# Altium footprint library Batteries.PcbLib: 12 footprints
Each footprint in its own frame and in the unit in brackets; x right, y up, seen from the top. Pads: shape width x height; smd on the part's side, far side on the other; paste and mask are expansions set on the pad; w line width, h text height; cw(c..) or ccw(c..) is an arc to the next point about the centre after c.
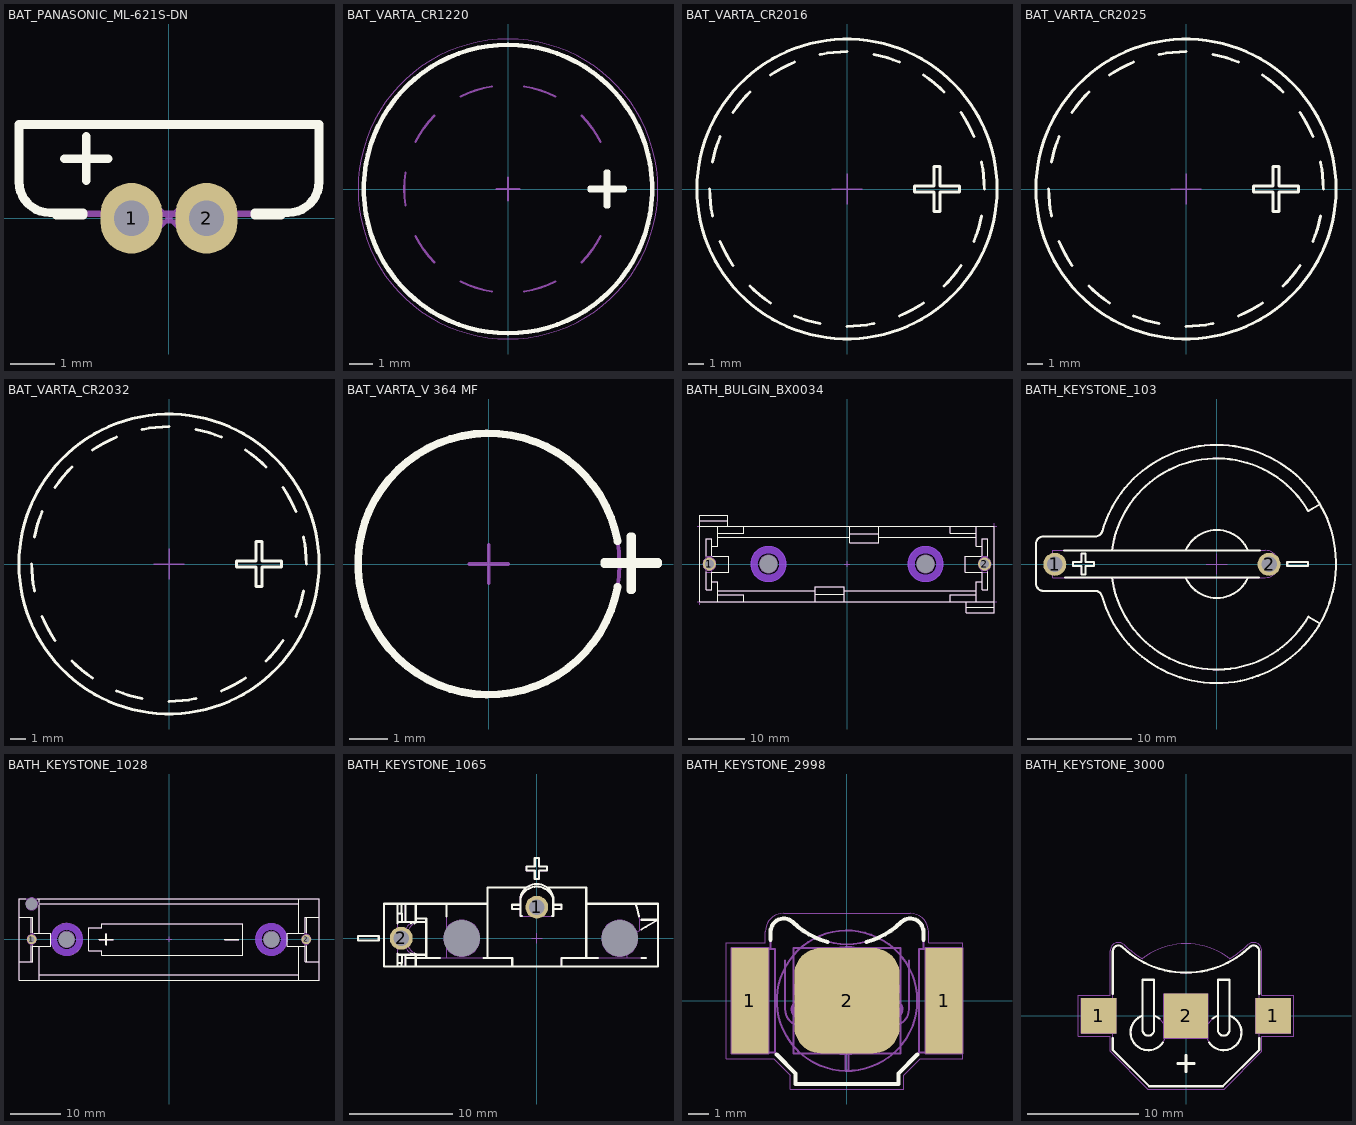
[diagram p0: the footprints below, top view; thin cyan lines are the x and y axes]

## BAT_PANASONIC_ML-621S-DN [mm] "6.8mm Diameter x 2.55mm Height Rechargeable 3V, 5mAh, Lithium Coin Cells, ML Series"
height 2.55
pads (2):
  oval 1.4x1.6 hole 0.8: 1(-0.85,0) 2(0.85,0)
Top Overlay:
  lines w0.2: -2.55,0.125 -2.55,0.075 -1.948,0.075 ; -2.375,1.35 -1.875,1.35 ; -1.943,0.125 -2.7,0.125 cw(c-2.7,0.825) -3.4,0.825 -3.4,2.125 3.4,2.125 3.4,0.825 cw(c2.7,0.825) 2.7,0.125 1.944,0.125 ; -1.875,0.85 -1.875,1.35 ; -1.875,1.85 -1.875,1.35 ; -1.375,1.35 -1.875,1.35 ; 1.948,0.075 2.543,0.075 2.543,0.125
Mechanical 8:
  lines w0.1: -1.35,0 -0.85,0 ; -0.85,-0.5 -0.85,0 ; -0.85,0.5 -0.85,0 ; -0.354,-0.354 0,0 ; -0.354,0.354 0,0 ; -0.35,0 -0.85,0 ; 0.35,0 0.85,0 ; 0.354,-0.354 0,0 ; 0.354,0.354 0,0 ; 0.85,-0.5 0.85,0 ; 0.85,0.5 0.85,0 ; 1.35,0 0.85,0
Mechanical 14:
  lines w0.1: -2.55,0.125 -2.55,0.075 2.543,0.075 2.543,0.125 ; -2.375,1.35 -1.875,1.35 ; -1.875,0.85 -1.875,1.35 ; -1.875,1.85 -1.875,1.35 ; -1.375,1.35 -1.875,1.35 ; -1.05,-0.075 -1.05,0.075 ; -1,-0.075 1,-0.075 ; 1.05,-0.075 1.05,0.075 ; -3.4,0.825 ccw(c-2.7,0.825) -2.7,0.125 2.7,0.125 ccw(c2.7,0.825) 3.4,0.825 3.4,2.125 -3.4,2.125 -3.4,0.825
3D body "BAT_PANASONIC_ML-621S-DN.stp": height 7.4, standoff -1.85, extent -3.4,-0.075 3.4,2.275

## BAT_VARTA_CR1220 [mm] "CR1210, 12.5mm Diameter x 2mm  Height Lithium Coin Cells"
height 2
Top Overlay:
  lines w0.2: 0,-6.25 cw(c0,0) 0,6.25 cw(c0,0) 0,-6.25 ; 3.547,-0.05 3.547,0.05 4.247,0.05 4.247,0.75 4.347,0.75 4.347,0.05 5.047,0.05 5.047,-0.05 4.347,-0.05 4.347,-0.75 4.247,-0.75 4.247,-0.05 3.547,-0.05
Mechanical 8:
  lines w0.1: -0.5,0 0,0 ; 0,-0.5 0,0 ; 0,0.5 0,0 ; 0.5,0 0,0
Mechanical 14:
  circle w0.1: c0,0 r6.25
  lines w0.1: -4.445,-0.704 cw(c0,0) -4.445,0.704 ; -4.01,-2.043 ccw(c0,0) -3.182,-3.182 ; -4.01,2.043 cw(c0,0) -3.182,3.182 ; -2.043,-4.01 ccw(c0,0) -0.704,-4.445 ; -2.043,4.01 cw(c0,0) -0.704,4.445 ; 0.704,-4.445 ccw(c0,0) 2.043,-4.01 ; 0.704,4.445 cw(c0,0) 2.043,4.01 ; 3.182,-3.182 ccw(c0,0) 4.01,-2.043 ; 3.182,3.182 cw(c0,0) 4.01,2.043
Mechanical 15:
  circle w0.05: c0,0 r6.5
3D body "BAT_VARTA_CR1220.stp": height 2, standoff 0, extent -6.25,-6.25 6.25,6.25

## BAT_VARTA_CR2016 [mm] "CR2016, 20mm Diameter x 1.6mm  Height Lithium Coin Cells"
height 1.6
Top Overlay:
  circle w0.2: c0,0 r10
  lines w0.2: -9.15,0 ccw(c0,0) -8.974,-1.785 ; -8.974,1.785 cw(c0,0) -8.454,3.502 ; -8.454,-3.502 ccw(c0,0) -7.608,-5.083 ; -7.608,5.083 cw(c0,0) -6.47,6.47 ; -6.47,-6.47 ccw(c0,0) -5.083,-7.608 ; -5.083,7.608 cw(c0,0) -3.502,8.454 ; -3.502,-8.454 ccw(c0,0) -1.785,-8.974 ; -1.785,8.974 cw(c0,0) 0,9.15 ; 0,-9.15 ccw(c0,0) 1.785,-8.974 ; 1.785,8.974 cw(c0,0) 3.502,8.454 ; 3.502,-8.454 ccw(c0,0) 5.083,-7.608 ; 5.083,7.608 cw(c0,0) 6.47,6.47 ; 6.47,-6.47 ccw(c0,0) 7.608,-5.083 ; 7.608,5.083 cw(c0,0) 8.454,3.502 ; 8.454,-3.502 ccw(c0,0) 8.974,-1.785 ; 8.974,1.785 cw(c0,0) 9.15,0 ; 4.5,-0.2 5.813,-0.2 5.813,-1.5 6.213,-1.5 6.213,-0.2 7.5,-0.2 7.5,0.2 6.213,0.2 6.213,1.5 5.813,1.5 5.813,0.2 4.5,0.2 4.5,-0.2
Mechanical 8:
  lines w0.1: -1,0 0,0 ; 0,-1 0,0 ; 0,1 0,0 ; 1,0 0,0
Mechanical 13:
  circle w0.1: c0,0 r10
Mechanical 14:
  lines w0.1: -9.15,0 ccw(c0,0) -8.974,-1.785 ; -8.974,1.785 cw(c0,0) -8.454,3.502 ; -8.454,-3.502 ccw(c0,0) -7.608,-5.083 ; -7.608,5.083 cw(c0,0) -6.47,6.47 ; -6.47,-6.47 ccw(c0,0) -5.083,-7.608 ; -5.083,7.608 cw(c0,0) -3.502,8.454 ; -3.502,-8.454 ccw(c0,0) -1.785,-8.974 ; -1.785,8.974 cw(c0,0) 0,9.15 ; 0,-9.15 ccw(c0,0) 1.785,-8.974 ; 1.785,8.974 cw(c0,0) 3.502,8.454 ; 3.502,-8.454 ccw(c0,0) 5.083,-7.608 ; 5.083,7.608 cw(c0,0) 6.47,6.47 ; 6.47,-6.47 ccw(c0,0) 7.608,-5.083 ; 7.608,5.083 cw(c0,0) 8.454,3.502 ; 8.454,-3.502 ccw(c0,0) 8.974,-1.785 ; 8.974,1.785 cw(c0,0) 9.15,0 ; 4.5,-0.2 5.813,-0.2 5.813,-1.5 6.213,-1.5 6.213,-0.2 7.5,-0.2 7.5,0.2 6.213,0.2 6.213,1.5 5.813,1.5 5.813,0.2 4.5,0.2 4.5,-0.2
3D body "BAT_VARTA_CR2016.stp": height 1.6, standoff -0.1, extent -10,-10 10,10

## BAT_VARTA_CR2025 [mm] "CR2025, 20mm Diameter x 2.5mm  Height Lithium Coin Cells"
height 2.5
Top Overlay:
  circle w0.2: c0,0 r10
  lines w0.2: -9.15,0 ccw(c0,0) -8.974,-1.785 ; -8.974,1.785 cw(c0,0) -8.454,3.502 ; -8.454,-3.502 ccw(c0,0) -7.608,-5.083 ; -7.608,5.083 cw(c0,0) -6.47,6.47 ; -6.47,-6.47 ccw(c0,0) -5.083,-7.608 ; -5.083,7.608 cw(c0,0) -3.502,8.454 ; -3.502,-8.454 ccw(c0,0) -1.785,-8.974 ; -1.785,8.974 cw(c0,0) 0,9.15 ; 0,-9.15 ccw(c0,0) 1.785,-8.974 ; 1.785,8.974 cw(c0,0) 3.502,8.454 ; 3.502,-8.454 ccw(c0,0) 5.083,-7.608 ; 5.083,7.608 cw(c0,0) 6.47,6.47 ; 6.47,-6.47 ccw(c0,0) 7.608,-5.083 ; 7.608,5.083 cw(c0,0) 8.454,3.502 ; 8.454,-3.502 ccw(c0,0) 8.974,-1.785 ; 8.974,1.785 cw(c0,0) 9.15,0 ; 4.5,-0.2 4.5,0.2 5.813,0.2 5.813,1.5 6.213,1.5 6.213,0.2 7.5,0.2 7.5,-0.2 6.213,-0.2 6.213,-1.5 5.813,-1.5 5.813,-0.2 4.5,-0.2
Mechanical 8:
  lines w0.1: -1,0 0,0 ; 0,-1 0,0 ; 0,1 0,0 ; 1,0 0,0
Mechanical 13:
  circle w0.1: c0,0 r10
Mechanical 14:
  lines w0.1: -9.15,0 ccw(c0,0) -8.974,-1.785 ; -8.974,1.785 cw(c0,0) -8.454,3.502 ; -8.454,-3.502 ccw(c0,0) -7.608,-5.083 ; -7.608,5.083 cw(c0,0) -6.47,6.47 ; -6.47,-6.47 ccw(c0,0) -5.083,-7.608 ; -5.083,7.608 cw(c0,0) -3.502,8.454 ; -3.502,-8.454 ccw(c0,0) -1.785,-8.974 ; -1.785,8.974 cw(c0,0) 0,9.15 ; 0,-9.15 ccw(c0,0) 1.785,-8.974 ; 1.785,8.974 cw(c0,0) 3.502,8.454 ; 3.502,-8.454 ccw(c0,0) 5.083,-7.608 ; 5.083,7.608 cw(c0,0) 6.47,6.47 ; 6.47,-6.47 ccw(c0,0) 7.608,-5.083 ; 7.608,5.083 cw(c0,0) 8.454,3.502 ; 8.454,-3.502 ccw(c0,0) 8.974,-1.785 ; 8.974,1.785 cw(c0,0) 9.15,0 ; 4.5,-0.2 4.5,0.2 5.813,0.2 5.813,1.5 6.213,1.5 6.213,0.2 7.5,0.2 7.5,-0.2 6.213,-0.2 6.213,-1.5 5.813,-1.5 5.813,-0.2 4.5,-0.2
3D body "BAT_VARTA_CR2025.stp": height 2.5, standoff 0, extent -10,-10 10,10

## BAT_VARTA_CR2032 [mm] "CR2032, 20mm Diameter x 32mm  Height Lithium Coin Cells"
height 3.2
Top Overlay:
  circle w0.2: c0,0 r10
  lines w0.2: -9.15,0 ccw(c0,0) -8.974,-1.785 ; -8.974,1.785 cw(c0,0) -8.454,3.502 ; -8.454,-3.502 ccw(c0,0) -7.608,-5.083 ; -7.608,5.083 cw(c0,0) -6.47,6.47 ; -6.47,-6.47 ccw(c0,0) -5.083,-7.608 ; -5.083,7.608 cw(c0,0) -3.502,8.454 ; -3.502,-8.454 ccw(c0,0) -1.785,-8.974 ; -1.785,8.974 cw(c0,0) 0,9.15 ; 0,-9.15 ccw(c0,0) 1.785,-8.974 ; 1.785,8.974 cw(c0,0) 3.502,8.454 ; 3.502,-8.454 ccw(c0,0) 5.083,-7.608 ; 5.083,7.608 cw(c0,0) 6.47,6.47 ; 6.47,-6.47 ccw(c0,0) 7.608,-5.083 ; 7.608,5.083 cw(c0,0) 8.454,3.502 ; 8.454,-3.502 ccw(c0,0) 8.974,-1.785 ; 8.974,1.785 cw(c0,0) 9.15,0 ; 4.5,-0.2 4.5,0.2 5.813,0.2 5.813,1.5 6.213,1.5 6.213,0.2 7.5,0.2 7.5,-0.2 6.213,-0.2 6.213,-1.5 5.813,-1.5 5.813,-0.2 4.5,-0.2
Mechanical 8:
  lines w0.1: -1,0 0,0 ; 0,-1 0,0 ; 0,1 0,0 ; 1,0 0,0
Mechanical 13:
  circle w0.1: c0,0 r10
Mechanical 14:
  lines w0.1: -9.15,0 ccw(c0,0) -8.974,-1.785 ; -8.974,1.785 cw(c0,0) -8.454,3.502 ; -8.454,-3.502 ccw(c0,0) -7.608,-5.083 ; -7.608,5.083 cw(c0,0) -6.47,6.47 ; -6.47,-6.47 ccw(c0,0) -5.083,-7.608 ; -5.083,7.608 cw(c0,0) -3.502,8.454 ; -3.502,-8.454 ccw(c0,0) -1.785,-8.974 ; -1.785,8.974 cw(c0,0) 0,9.15 ; 0,-9.15 ccw(c0,0) 1.785,-8.974 ; 1.785,8.974 cw(c0,0) 3.502,8.454 ; 3.502,-8.454 ccw(c0,0) 5.083,-7.608 ; 5.083,7.608 cw(c0,0) 6.47,6.47 ; 6.47,-6.47 ccw(c0,0) 7.608,-5.083 ; 7.608,5.083 cw(c0,0) 8.454,3.502 ; 8.454,-3.502 ccw(c0,0) 8.974,-1.785 ; 8.974,1.785 cw(c0,0) 9.15,0 ; 4.5,-0.2 4.5,0.2 5.813,0.2 5.813,1.5 6.213,1.5 6.213,0.2 7.5,0.2 7.5,-0.2 6.213,-0.2 6.213,-1.5 5.813,-1.5 5.813,-0.2 4.5,-0.2
3D body "BAT_VARTA_CR2032.stp": height 3.2, standoff 0, extent -10,-10 10,10

## BAT_VARTA_V 364 MF [mm] "CR60, 6.8mm Diameter x 2.2mm  Height Silver Oxide Buttun Cell Battery"
height 3.2
Top Overlay:
  lines w0.2: 3.348,-0.59 cw(c0,0) 3.348,0.59 ; 3,0 3.675,0 3.675,-0.675 3.725,-0.675 3.725,0 4.4,0 4.4,0.05 3.725,0.05 3.725,0.725 3.675,0.725 3.675,0.05 3,0.05 3,0
Mechanical 8:
  lines w0.1: -0.5,0 0,0 ; 0,-0.5 0,0 ; 0,0.5 0,0 ; 0.5,0 0,0
Mechanical 14:
  circle w0.1: c0,0 r3.4
  lines w0.1: 3,0 3.675,0 3.675,-0.675 3.725,-0.675 3.725,0 4.4,0 4.4,0.05 3.725,0.05 3.725,0.725 3.675,0.725 3.675,0.05 3,0.05 3,0
3D body "BAT_VARTA_V 364 MF.stp": height 2.2, standoff 0, extent -3.4,-3.4 3.4,3.4

## BATH_BULGIN_BX0034 [mm] "THD Battery Holder 1 Cell AAA"
height 24
pads (4):
  round 2.3 hole 1.6: 1(-24.45,0) 2(24.45,0)
  round 1 hole 3.2 unplated mask+1.1: MECH(-13.95,0) MECH(13.95,0)
Bottom Layer keep-out:
  circle w1.29: c13.95,0 r2.555
  circle w1.29: c-13.95,0 r2.555
Top Overlay:
  lines w0.2: -26.15,6.75 -22.95,6.75 ; -26.15,7.7 -21.15,7.7 ; -25.05,1.375 -25.05,4.458 -24.05,4.458 -24.05,1.446 ; -24.05,-3.15 -22.95,-3.15 -22.95,-6.75 ; -24.05,-1.446 -24.05,-4.542 -25.05,-4.542 ; -24.05,3.15 -22.95,3.15 -22.95,6.75 ; -24.037,-1.442 -21.042,-1.442 -21.042,1.358 -23.813,1.358 ; -22.95,-5.45 -18.35,-5.45 -18.35,-6.75 ; -22.95,-4.75 -5.65,-4.75 ; -22.95,4.75 0.45,4.75 ; -22.95,5.45 -18.35,5.45 -18.35,6.75 ; -21.15,6.75 -21.15,8.65 -26.15,8.65 -26.15,-6.75 26.15,-6.75 ; -5.65,-6.75 -5.65,-4.012 -0.45,-4.012 -0.45,-6.75 ; -5.65,-5.35 -0.45,-5.35 ; -0.45,-4.75 22.95,-4.75 ; 0.45,5.35 5.65,5.35 ; 0.45,6.75 0.45,3.75 5.65,3.75 5.65,6.75 ; 5.65,4.75 22.95,4.75 ; 18.35,-6.75 18.35,-5.45 22.95,-5.45 ; 21.15,-7.7 26.15,-7.7 ; 21.15,-6.75 21.15,-8.65 26.15,-8.65 26.15,6.75 22.95,6.75 ; 22.95,-6.75 22.95,-3.15 24.05,-3.15 ; 22.95,5.45 18.35,5.45 18.35,6.75 ; 23.813,1.358 21.042,1.358 21.042,-1.442 24.037,-1.442 ; 24.05,-1.446 24.05,-4.542 25.05,-4.542 ; 24.05,1.446 24.05,4.458 25.05,4.458 25.05,1.375 ; 24.05,3.15 22.95,3.15 22.95,6.75 ; -25.05,-4.542 -25.05,-1.375 -25.05,-4.542 ; -22.95,6.75 -18.35,6.75 ; -18.35,6.75 18.35,6.75 ; 18.35,6.75 22.95,6.75 ; 25.05,-4.542 25.05,-1.375 25.05,-4.542
Mechanical 8:
  circle w0.1: c-13.95,0 r1.6
  circle w0.1: c13.95,0 r1.6
  circle w0.1: c-24.45,0 r0.8
  circle w0.1: c24.45,0 r0.8
  circle w0.1: c-24.45,0 r1.15
  circle w0.1: c24.45,0 r1.15
  lines w0.1: -26.65,-6.75 -26.15,-6.75 ; -26.65,6.75 -26.15,6.75 ; -26.15,-7.25 -26.15,-6.75 ; -26.15,-6.25 -26.15,-6.75 ; -26.15,6.25 -26.15,6.75 ; -26.15,7.25 -26.15,6.75 ; -25.65,-6.75 -26.15,-6.75 ; -25.65,6.75 -26.15,6.75 ; -24.95,0 -24.45,0 ; -24.45,-0.5 -24.45,0 ; -24.45,0.5 -24.45,0 ; -23.95,0 -24.45,0 ; -14.45,0 -13.95,0 ; -13.95,-0.5 -13.95,0 ; -13.95,0.5 -13.95,0 ; -13.45,0 -13.95,0 ; -0.5,0 0,0 ; 0,-0.5 0,0 ; 0,0.5 0,0 ; 0.5,0 0,0 ; 13.45,0 13.95,0 ; 13.95,-0.5 13.95,0 ; 13.95,0.5 13.95,0 ; 14.45,0 13.95,0 ; 23.95,0 24.45,0 ; 24.45,-0.5 24.45,0 ; 24.45,0.5 24.45,0 ; 24.95,0 24.45,0 ; 25.65,-6.75 26.15,-6.75 ; 25.65,6.75 26.15,6.75 ; 26.15,-7.25 26.15,-6.75 ; 26.15,-6.25 26.15,-6.75 ; 26.15,6.25 26.15,6.75 ; 26.15,7.25 26.15,6.75 ; 26.65,-6.75 26.15,-6.75 ; 26.65,6.75 26.15,6.75
Mechanical 14:
  circle w0.1: c-13.95,0 r3.1
  circle w0.1: c13.95,0 r3.1
  circle w0.1: c13.95,0 r1.6
  circle w0.1: c-13.95,0 r1.6
  lines w0.1: -26.15,6.75 -22.95,6.75 ; -26.15,7.7 -21.15,7.7 ; -24.05,-3.15 -22.95,-3.15 -22.95,-6.75 ; -24.05,3.15 -22.95,3.15 -22.95,6.75 ; -22.95,-5.45 -18.35,-5.45 -18.35,-6.75 ; -22.95,-4.75 -5.65,-4.75 ; -22.95,4.75 0.45,4.75 ; -22.95,5.45 -18.35,5.45 -18.35,6.75 ; -21.15,6.75 -21.15,8.65 -26.15,8.65 -26.15,-6.75 26.15,-6.75 ; -5.65,-6.75 -5.65,-4.012 -0.45,-4.012 -0.45,-6.75 ; -5.65,-5.35 -0.45,-5.35 ; -0.45,-4.75 22.95,-4.75 ; 0.45,5.35 5.65,5.35 ; 0.45,6.75 0.45,3.75 5.65,3.75 5.65,6.75 ; 5.65,4.75 22.95,4.75 ; 18.35,-6.75 18.35,-5.45 22.95,-5.45 ; 21.15,-7.7 26.15,-7.7 ; 21.15,-6.75 21.15,-8.65 26.15,-8.65 26.15,6.75 22.95,6.75 ; 22.95,-6.75 22.95,-3.15 24.05,-3.15 ; 22.95,5.45 18.35,5.45 18.35,6.75 ; 24.05,3.15 22.95,3.15 22.95,6.75 ; -25.05,-4.542 -25.05,4.458 ; -25.05,-4.542 -24.05,-4.542 -24.05,4.458 -25.05,4.458 ; -25.05,-4.542 -25.05,-1.442 -21.042,-1.442 -21.042,1.358 -25.05,1.358 -25.05,4.458 ; -22.95,6.75 -18.35,6.75 ; -18.35,6.75 18.35,6.75 ; 18.35,6.75 22.95,6.75 ; 25.05,-4.542 24.05,-4.542 24.05,4.458 25.05,4.458 ; 25.05,-4.542 25.05,-1.442 21.042,-1.442 21.042,1.358 25.05,1.358 25.05,4.458 ; 25.05,-4.542 25.05,4.458
3D body "BATH_BULGIN_BX0034.stp": height 23.9, standoff -3, extent -26.15,-8.65 26.15,8.65

## BATH_KEYSTONE_103 [mm] "Battery Holder for 20mm Lithium Coin Cells"
height 8.5
pads (2):
  round 2.2 hole 1.5: 1(-15.5,-0.031) 2(5,-0.031)
Top Overlay:
  lines w0.2: -14.615,1.302 4.115,1.302 ; -14.528,-1.302 4.028,-1.302 ; -10.016,-1.302 ccw(c0,0) 8.751,-5.043 9.877,-5.692 ; -10.016,1.302 cw(c0,0) 8.738,5.065 9.863,5.717 ; -2.985,-1.302 ccw(c0,0) 2.985,-1.302 ; -2.985,1.302 cw(c0,0) 2.985,1.302 ; -11.763,-0.2 -11.763,0.2 ; -11.763,-0.2 -12.563,-0.2 -12.563,-1 -12.963,-1 -12.963,-0.2 -13.763,-0.2 -13.763,0.2 -12.963,0.2 -12.963,1 -12.563,1 -12.563,0.2 -11.763,0.2 ; -11.763,-0.2 -11.763,0.2 ; 8.737,-0.2 8.737,0.2 ; 8.737,-0.2 6.737,-0.2 6.737,0.2 8.737,0.2 ; 8.737,-0.2 8.737,0.2 ; -17.3,-1.872 ccw(c-16.6,-1.872) -16.6,-2.572 -11.649,-2.572 cw(c-11.649,-3.272) -10.975,-3.083 ccw(c0,0) -10.958,3.143 cw(c-11.631,3.336) -11.631,2.636 -16.6,2.636 ccw(c-16.6,1.936) -17.3,1.936 -17.3,-1.872
Mechanical 8:
  lines w0.1: -16.5,-0.031 -15.5,-0.031 ; -15.5,-1.031 -15.5,-0.031 ; -15.5,0.969 -15.5,-0.031 ; -14.5,-0.031 -15.5,-0.031 ; -1,0 0,0 ; 0,-1 0,0 ; 0,1 0,0 ; 1,0 0,0 ; 4,-0.031 5,-0.031 ; 5,-1.031 5,-0.031 ; 5,0.969 5,-0.031 ; 6,-0.031 5,-0.031
Mechanical 14:
  lines w0.1: -10.016,-1.302 ccw(c0,0) 8.751,-5.043 9.877,-5.692 ; -10.016,1.302 cw(c0,0) 8.738,5.065 9.863,5.717 ; -2.985,-1.302 ccw(c0,0) 2.985,-1.302 ; -2.985,1.302 cw(c0,0) 2.985,1.302 ; -11.763,-0.2 -11.763,0.2 ; -11.763,-0.2 -12.563,-0.2 -12.563,-1 -12.963,-1 -12.963,-0.2 -13.763,-0.2 -13.763,0.2 -12.963,0.2 -12.963,1 -12.563,1 -12.563,0.2 -11.763,0.2 ; -11.763,-0.2 -11.763,0.2 ; 8.737,-0.2 8.737,0.2 ; 8.737,-0.2 6.737,-0.2 6.737,0.2 8.737,0.2 ; 8.737,-0.2 8.737,0.2 ; -17.3,-1.872 ccw(c-16.6,-1.872) -16.6,-2.572 -11.649,-2.572 cw(c-11.649,-3.272) -10.975,-3.083 ccw(c0,0) -10.958,3.143 cw(c-11.631,3.336) -11.631,2.636 -16.6,2.636 ccw(c-16.6,1.936) -17.3,1.936 -17.3,-1.872 ; -15.7,-1.302 -15.7,1.302 4.636,1.302 cw(c4.636,0) 4.636,-1.302 -15.7,-1.302
3D body "BATH_KEYSTONE_103.stp": height 8.5, standoff -4.8, extent -17.3,-11.391 11.4,11.388

## BATH_KEYSTONE_1028 [mm] "THD Battery Holder for AA, LR6, HR6, L91 Cylindrical Batteties Size"
height 24
pads (5):
  round 1.9 hole 1.2: 1(-27.43,0) 2(27.43,0)
  round 1 hole 2.4 unplated mask+0.7: MECH(-27.43,7.09)
  round 1 hole 3.2 unplated mask+1.1: MECH(-20.445,0) MECH(20.445,0)
Bottom Layer keep-out:
  circle w1.29: c20.445,0 r2.555
  circle w1.29: c-20.445,0 r2.555
Top Overlay:
  lines w0.2: -29.972,-4.445 -27.254,-4.445 -27.254,-1.288 ; -29.972,4.445 -27.254,4.445 -27.254,1.288 ; -28.581,8.128 -29.972,8.128 -29.972,-8.128 29.972,-8.128 29.972,8.128 -26.279,8.128 ; -27.559,-4.445 -27.559,-1.294 ; -27.559,1.294 -27.559,4.445 ; -27.254,-1.359 -23.602,-1.359 -23.602,1.181 -26.887,1.181 ; -25.908,-8.128 -25.908,-1.359 ; -25.908,-7.112 25.908,-7.112 ; -25.908,1.181 -25.908,6.797 ; -25.908,7.383 -25.908,8.128 ; -25.88,7.112 25.908,7.112 ; 25.908,-8.128 25.908,-1.359 ; 25.908,1.181 25.908,8.128 ; 26.887,1.181 23.602,1.181 23.602,-1.359 27.254,-1.359 ; 27.254,-1.288 27.254,-4.445 29.972,-4.445 ; 27.254,1.288 27.254,4.445 29.972,4.445 ; 27.559,-4.445 27.559,-1.294 ; 27.559,1.294 27.559,4.445 ; -16.002,-2.28 -13.462,-2.28 -13.462,-3.175 14.732,-3.175 14.732,3.175 -13.462,3.175 -13.462,2.292 -16.002,2.292 -16.002,-2.28 ; -13.97,-0.076 -12.636,-0.076 -12.636,-1.115 -12.484,-1.115 -12.484,-0.076 -11.151,-0.076 -11.151,0.076 -12.484,0.076 -12.484,1.115 -12.636,1.115 -12.636,0.076 -13.97,0.076 -13.97,-0.076 ; 11.151,-0.076 11.151,0.076 13.97,0.076 13.97,-0.076 11.151,-0.076
Mechanical 8:
  circle w0.1: c-20.445,0 r3.2
  circle w0.1: c-27.43,7.09 r1.2
  circle w0.1: c-27.43,0 r0.95
  circle w0.1: c-27.43,0 r0.6
  circle w0.1: c27.43,0 r0.95
  circle w0.1: c27.43,0 r0.6
  circle w0.1: c-20.445,0 r1.6
  circle w0.1: c20.447,0 r1.6
  lines w0.1: -27.93,0 -27.43,0 ; -27.93,7.09 -27.43,7.09 ; -27.43,-0.5 -27.43,0 ; -27.43,0.5 -27.43,0 ; -27.43,6.59 -27.43,7.09 ; -27.43,7.59 -27.43,7.09 ; -26.93,0 -27.43,0 ; -26.93,7.09 -27.43,7.09 ; -20.945,0 -20.445,0 ; -20.445,-0.5 -20.445,0 ; -20.445,0.5 -20.445,0 ; -19.945,0 -20.445,0 ; -0.5,0 0,0 ; 0,-0.5 0,0 ; 0,0.5 0,0 ; 0.5,0 0,0 ; 19.945,0 20.445,0 ; 20.445,-0.5 20.445,0 ; 20.445,0.5 20.445,0 ; 20.945,0 20.445,0 ; 26.93,0 27.43,0 ; 27.43,-0.5 27.43,0 ; 27.43,0.5 27.43,0 ; 27.93,0 27.43,0
Mechanical 14:
  circle w0.1: c20.447,0 r1.587
  circle w0.1: c-20.447,0 r1.587
  lines w0.1: -29.972,-4.445 -27.254,-4.445 -27.254,4.445 -29.972,4.445 ; -27.559,-4.445 -27.559,4.445 ; -27.254,-1.359 -23.602,-1.359 -23.602,1.181 -27.254,1.181 ; -25.908,-8.128 -25.908,-1.359 ; -25.908,-7.112 25.908,-7.112 ; -25.908,1.181 -25.908,8.128 ; -25.908,7.112 25.908,7.112 ; -23.602,-0.354 ccw(c-20.447,0) -23.602,0.354 ; 23.602,-0.354 cw(c20.447,0) 23.602,0.354 ; 25.908,-8.128 25.908,-1.359 ; 25.908,1.181 25.908,8.128 ; 27.254,-1.359 23.602,-1.359 23.602,1.181 27.254,1.181 ; 27.559,-4.445 27.559,4.445 ; 29.972,-4.445 27.254,-4.445 27.254,4.445 29.972,4.445 ; -29.972,-8.128 -29.972,8.128 29.972,8.128 29.972,-8.128 -29.972,-8.128 ; -16.002,-2.28 -13.462,-2.263 -13.462,-3.175 14.732,-3.175 14.732,3.175 -13.462,3.175 -13.462,2.292 -16.002,2.292 -16.002,-2.28 ; -13.97,-0.076 -12.636,-0.076 -12.636,-1.115 -12.484,-1.115 -12.484,-0.076 -11.151,-0.076 -11.151,0.076 -12.484,0.076 -12.484,1.115 -12.636,1.115 -12.636,0.076 -13.97,0.076 -13.97,-0.076 ; 11.151,-0.076 11.151,0.076 13.97,0.076 13.97,-0.076 11.151,-0.076
3D body "BATH_KEYSTONE_1028.stp": height 15.24, standoff -3.55, extent -29.972,-8.128 29.972,8.128

## BATH_KEYSTONE_1065 [mm] "SMD Battery Holders for BR2012,CR2012,BR2016, CR2016, DL2016, BR2020, CL2020, BR2025, CR2025, DL2025, BR2032, CR2032, DL2032, ANSI 5000LC, IEC CR2016 Coin Cells"
height 25.4
pads (4):
  round 2.2 hole 1.5: 1(0,3) 2(-13.08,0)
  round 0.5 hole 3.5 unplated mask+1.5: HOLE(-7.24,0) HOLE(8,0)
Top Overlay:
  lines w0.2: -13.432,-2.713 -13.432,-1.45 ; -13.432,-2.375 -13.025,-2.375 -13.025,-1.587 ; -13.432,-1.587 -10.663,-1.587 ; -13.432,1.45 -13.432,3.332 ; -13.432,1.587 -10.663,1.587 ; -13.432,2.375 -13.025,2.375 -13.025,1.587 ; -13.048,-2.713 -13.048,-2.375 ; -13.048,2.375 -13.048,3.332 ; -12.681,-2.713 -12.681,-1.587 ; -12.681,-1.9 -9.34,-1.9 ; -12.681,1.587 -12.681,3.332 ; -12.137,-1.45 ccw(c-11.381,-0.214) -11.842,-1.588 ; -12.137,1.45 cw(c-11.381,0.214) -11.842,1.588 ; -11.816,-1.45 ccw(c-11.058,-0.21) -11.522,-1.587 ; -11.816,1.45 cw(c-11.058,0.21) -11.522,1.588 ; -11.679,-2.713 -11.679,-1.587 ; -11.679,1.587 -11.679,3.332 ; -11.679,1.91 -10.663,1.91 -10.663,-1.9 ; -8.707,2.1 -8.707,3.332 ; -5.14,-1.9 -2.37,-1.9 -2.37,-2.713 ; -4.758,-1.9 -4.758,4.907 -1.078,4.907 ; -4.758,3.332 -14.727,3.332 -14.727,-2.713 11.689,-2.713 11.689,3.332 4.767,3.332 ; -1.587,2.824 -2.375,2.824 -2.375,3.231 -1.587,3.231 ; -1.587,3.778 cw(c0,3.338) 1.588,3.78 ; -1.45,2.133 -1.587,2.133 -1.587,3.741 -1.587,3.991 cw(c0,3.602) 1.587,3.991 1.587,3.741 1.587,2.133 1.45,2.133 ; -0.008,5.236 0.008,5.236 ; 1.078,4.907 4.767,4.907 4.767,-1.9 ; 1.587,2.824 2.375,2.824 2.375,3.231 1.587,3.231 ; 2.38,-2.713 2.38,-1.9 5.9,-1.9 ; 9.51,3.332 cw(c0.005,-0.071) 9.865,2.1 ; 10.1,-1.9 10.517,-1.9 ; 10.1,0.866 10.517,1.106 11.689,1.783 10.1,1.783 ; -15.25,-0.2 -15.25,0.2 ; -15.25,-0.2 -17.25,-0.2 -17.25,0.2 -15.25,0.2 ; -15.25,-0.2 -15.25,0.2 ; 1,6.525 1,6.925 ; 1,6.525 0.2,6.525 0.2,5.725 -0.2,5.725 -0.2,6.525 -1,6.525 -1,6.925 -0.2,6.925 -0.2,7.725 0.2,7.725 0.2,6.925 1,6.925 ; 1,6.525 1,6.925
Mechanical 8:
  circle w0.05: c-7.24,0 r1.75
  circle w0.05: c8,0 r1.75
  circle w0.05: c0,3 r0.75
  circle w0.05: c-13.08,0 r0.75
  lines w0.05: -13.58,0 -12.58,0 ; -13.08,-0.5 -13.08,0.5 ; -7.74,0 -6.74,0 ; -7.24,-0.5 -7.24,0.5 ; -0.5,0 0.5,0 ; -0.5,3 0.5,3 ; 0,-0.5 0,0.5 ; 0,2.5 0,3.5 ; 7.5,0 8.5,0 ; 8,-0.5 8,0.5
Mechanical 14:
  lines w0.1: -13.432,-2.713 -13.432,3.332 ; -13.432,-2.375 -13.025,-2.375 -13.025,-1.587 ; -13.432,-1.587 -10.663,-1.587 ; -13.432,1.587 -10.663,1.587 ; -13.432,2.375 -13.025,2.375 -13.025,1.587 ; -13.048,-2.713 -13.048,-2.375 ; -13.048,2.375 -13.048,3.332 ; -12.681,-2.713 -12.681,-1.587 ; -12.681,1.587 -12.681,3.332 ; -12.511,-0.21 ccw(c-11.058,-0.21) -11.522,-1.587 ; -12.511,-0.21 -12.511,0.21 cw(c-11.058,0.21) -11.522,1.588 ; -11.842,-1.588 cw(c-11.381,-0.214) -12.83,-0.214 -12.83,0.214 cw(c-11.381,0.214) -11.842,1.588 ; -11.679,-2.713 -11.679,-1.587 ; -11.679,-1.9 -2.37,-1.9 -2.37,-2.713 ; -11.679,1.587 -11.679,3.332 ; -11.679,1.91 -10.663,1.91 -10.663,-1.9 ; -8.707,-1.9 -8.707,3.332 ; -4.758,-1.9 -4.758,4.907 -1.078,4.907 ; -4.758,3.332 -14.727,3.332 -14.727,-2.713 11.689,-2.713 11.689,3.332 4.767,3.332 ; -1.587,2.824 -2.375,2.824 -2.375,3.231 -1.587,3.231 ; -1.587,3.778 cw(c0,3.338) 1.588,3.78 ; -0.008,5.236 0.008,5.236 ; 1.078,4.907 4.767,4.907 4.767,-1.9 ; 1.587,2.824 2.375,2.824 2.375,3.231 1.587,3.231 ; 2.38,-2.713 2.38,-1.9 10.517,-1.9 ; 8.717,-1.9 8.717,0.067 10.517,1.106 11.689,1.783 9.93,1.783 ; 9.51,3.332 cw(c0.005,-0.071) 9.93,1.783 ; 9.93,0.767 9.93,1.783 ; -15.25,-0.2 -15.25,0.2 ; -15.25,-0.2 -17.25,-0.2 -17.25,0.2 -15.25,0.2 ; -15.25,-0.2 -15.25,0.2 ; 1,6.525 1,6.925 ; 1,6.525 0.2,6.525 0.2,5.725 -0.2,5.725 -0.2,6.525 -1,6.525 -1,6.925 -0.2,6.925 -0.2,7.725 0.2,7.725 0.2,6.925 1,6.925 ; 1,6.525 1,6.925 ; -1.587,2.133 1.587,2.133 1.587,3.741 1.587,3.991 ccw(c0,3.602) -1.587,3.991 -1.587,3.741 -1.587,2.133
3D body "BATH_KEYSTONE_1065.stp": height 23.32, standoff -3.98, extent -14.727,-2.713 11.689,5.236

## BATH_KEYSTONE_2998 [mm] "SMD Battery Holder for SR60, SR66, SR621, LR621, MC621, V364, SC621, DR13H, D377, V13AT Coin Cells"
height 3.175
pads (3):
  rect 1.8x5.1 smd: 1(-4.7,0) 1(4.7,0)
  rrect50% 5.1x5.1 smd paste-2.55: 2(0,0)
Top Overlay:
  lines w0.2: -3.699,2.95 -3.699,3.34 cw(c-3.064,3.34) -2.621,3.795 ccw(c0,6.49) -0.938,2.849 ; -3.4,-2.597 -2.502,-3.518 -2.502,-4.026 2.502,-4.026 2.502,-3.518 3.4,-2.597 ; 0.938,2.849 ccw(c0,6.49) 2.621,3.795 cw(c3.064,3.34) 3.699,3.34 3.699,2.95
Mechanical 8:
  circle w0.1: c0,0 r2.6
  circle w0.1: c0,0 r3.4
  lines w0.1: -5.2,0 -4.7,0 ; -4.7,-0.5 -4.7,0 ; -4.7,0.5 -4.7,0 ; -4.2,0 -4.7,0 ; -0.5,0 0,0 ; 0,-0.5 0,0 ; 0,0.5 0,0 ; 0.5,0 0,0 ; 4.2,0 4.7,0 ; 4.7,-0.5 4.7,0 ; 4.7,0.5 4.7,0 ; 5.2,0 4.7,0 ; -5.6,-2.55 -3.8,-2.55 -3.8,2.55 -5.6,2.55 -5.6,-2.55 ; -2.6,-2.55 -2.6,2.55 2.6,2.55 2.6,-2.55 -2.6,-2.55 ; 3.8,-2.55 5.6,-2.55 5.6,2.55 3.8,2.55 3.8,-2.55
Mechanical 14:
  circle w0.1: c2.21,-0.422 r0.47
  circle w0.1: c-2.21,-0.422 r0.47
  lines w0.1: -3.699,2.502 -3.699,3.34 cw(c-3.064,3.34) -2.621,3.795 ccw(c0,6.49) 2.621,3.795 cw(c3.064,3.34) 3.699,3.34 3.699,2.502 ; -2.997,1.943 -2.997,-0.419 ccw(c-2.21,-0.419) -1.422,-0.419 -1.422,1.943 ; 1.422,1.943 1.422,-0.419 ccw(c2.21,-0.419) 2.997,-0.419 2.997,1.943 2.997,-0.407 ; -3.492,-2.502 -3.492,2.502 -4.305,2.502 -5.357,1.45 -5.357,0.038 cw(c-5.357,-0.775) -5.357,-1.587 -5.357,-2.502 -3.492,-2.502 ; -3.492,-2.502 -2.502,-3.518 -2.502,-4.026 2.502,-4.026 2.502,-3.518 3.493,-2.502 ; 3.493,-2.502 3.493,2.502 4.305,2.502 5.357,1.45 5.357,0.038 ccw(c5.357,-0.775) 5.357,-1.587 5.357,-2.502 3.493,-2.502 ; -1.181,-2.286 -1.181,-2.134 -0.076,-2.134 -0.076,-1.029 0.076,-1.029 0.076,-2.134 1.181,-2.134 1.181,-2.286 0.076,-2.286 0.076,-3.391 -0.076,-3.391 -0.076,-2.286 -1.181,-2.286
Mechanical 15:
  lines w0.05: -5.85,-2.8 -3.551,-2.8 -2.752,-3.62 -2.752,-4.276 2.752,-4.276 2.752,-3.62 3.551,-2.8 5.6,-2.8 5.6,2.8 3.949,2.8 3.949,3.34 ccw(c3.064,3.34) 3.064,4.225 -3.064,4.225 ccw(c-3.064,3.34) -3.949,3.34 -3.949,2.8 -5.85,2.8 -5.85,-2.8
3D body "BATH_KEYSTONE_2998.stp": height 2.9, standoff 0, extent -5.357,-4.026 5.357,3.975

## BATH_KEYSTONE_3000 [mm] "SMD Battery Holder for BR1216, CR1216, BR1220, CL1220, CR1220, BR1225 Coin Cells"
height 3.175
pads (3):
  rect 3.175x3.175 smd: 1(-7.873,0) 1(7.873,0)
  rect 4x4 smd paste-2: 2(0,0)
Top Overlay:
  lines w0.2: -6.6,-1.988 -6.6,-3.075 -3.325,-6.35 3.325,-6.35 6.6,-3.075 6.6,-1.988 ; -6.6,1.988 -6.6,5.85 cw(c-6.098,5.848) -5.75,6.21 ccw(c0,12.175) 5.75,6.21 cw(c6.099,5.849) 6.6,5.85 6.6,1.988 ; -3.921,-1.335 -3.921,3.255 ; -3.921,-1.335 ccw(c-3.4,-1.263) -2.879,-1.335 -2.879,3.255 ; -2.077,-2.4 cw(c-3.4,-1.5) -3.921,0.013 -3.921,3.255 ; 3.921,-1.335 cw(c3.4,-1.263) 2.879,-1.335 2.879,3.255 ; 3.921,-1.335 3.921,3.255 2.879,3.255 ; -3.921,3.255 -2.879,3.255 ; -3.921,3.255 -2.879,3.255 ; -2.879,0.013 cw(c-3.4,-1.5) -2.4,-0.251 ccw(c-3.4,-1.5) -2.879,0.013 ; -2.879,0.013 -2.879,3.255 ; 2.879,0.013 ccw(c3.4,-1.5) 2.4,-0.251 cw(c3.4,-1.5) 2.879,0.013 ; 2.879,0.013 2.879,3.255 ; 2.879,3.255 3.921,3.255 3.921,0.013 ; 3.921,0.013 cw(c3.4,-1.5) 2.077,-2.4 ccw(c3.4,-1.5) 3.921,0.013 ; -0.75,-4.322 -0.75,-4.272 -0.025,-4.272 -0.025,-3.547 0.025,-3.547 0.025,-4.272 0.75,-4.272 0.75,-4.322 0.025,-4.322 0.025,-5.047 -0.025,-5.047 -0.025,-4.322 -0.75,-4.322
Mechanical 8:
  lines w0.1: -8.373,0 -7.873,0 ; -7.873,-0.5 -7.873,0 ; -7.873,0.5 -7.873,0 ; -7.373,0 -7.873,0 ; -0.5,0 0,0 ; 0,-0.5 0,0 ; 0,0.5 0,0 ; 0.5,0 0,0 ; 7.373,0 7.873,0 ; 7.873,-0.5 7.873,0 ; 7.873,0.5 7.873,0 ; 8.373,0 7.873,0 ; -9.46,-1.587 -6.285,-1.587 -6.285,1.587 -9.46,1.587 -9.46,-1.587 ; -2,-2 2,-2 2,2 -2,2 -2,-2 ; 6.285,-1.587 9.46,-1.587 9.46,1.587 6.285,1.587 6.285,-1.587
Mechanical 14:
  circle w0.1: c-8.03,-0.001 r0.6
  circle w0.1: c8.03,-0.001 r0.6
  lines w0.1: -6.6,-1.59 -9.46,-1.59 -9.46,1.59 -6.6,1.59 ; -3.921,-1.335 -3.921,3.255 ; -3.921,-1.335 ccw(c-3.4,-1.263) -2.879,-1.335 -2.879,3.255 ; 3.921,-1.335 cw(c3.4,-1.263) 2.879,-1.335 2.879,3.255 ; 3.921,-1.335 3.921,3.255 2.879,3.255 ; 6.6,-1.59 9.46,-1.59 9.46,1.59 6.6,1.59 ; -3.921,0.013 ccw(c-3.4,-1.5) -2.879,0.013 ; -3.921,0.013 ccw(c-3.4,-1.5) -2.879,0.013 ; -3.921,0.013 -3.921,3.255 ; -3.921,3.255 -2.879,3.255 ; -3.921,3.255 -2.879,3.255 ; -2.879,0.013 -2.879,3.255 ; 2.879,0.013 ccw(c3.4,-1.5) 3.921,0.013 ; 2.879,0.013 ccw(c3.4,-1.5) 3.921,0.013 ; 2.879,0.013 2.879,3.255 ; 2.879,3.255 3.921,3.255 3.921,0.013 ; -6.6,-3.075 -3.325,-6.35 3.325,-6.35 6.6,-3.075 6.6,5.85 ccw(c6.099,5.849) 5.75,6.21 cw(c0,12.175) -5.75,6.21 ccw(c-6.098,5.848) -6.6,5.85 -6.6,-3.075 ; -0.75,-4.322 -0.75,-4.272 -0.025,-4.272 -0.025,-3.547 0.025,-3.547 0.025,-4.272 0.75,-4.272 0.75,-4.322 0.025,-4.322 0.025,-5.047 -0.025,-5.047 -0.025,-4.322 -0.75,-4.322
Mechanical 15:
  lines w0.05: -6.85,5.85 -6.85,1.84 -9.71,1.84 -9.71,-1.84 -6.85,-1.84 -6.85,-3.179 -3.429,-6.6 3.429,-6.6 6.85,-3.179 6.85,-1.84 9.71,-1.84 9.71,1.84 6.85,1.84 6.85,5.85 ; -6.85,5.851 cw(c-6.098,5.848) -5.577,6.39 ; -5.577,6.39 ccw(c0,12.175) -3.938,5.171 cw(c0,0) 3.938,5.171 ccw(c0,12.175) 5.577,6.39 cw(c6.099,5.849) 6.85,5.85
3D body "BATH_KEYSTONE_3000.stp": height 3.17, standoff 0, extent -9.46,-6.35 9.46,6.351